# EAGLE library part TMUX6119 (library bc_custom)
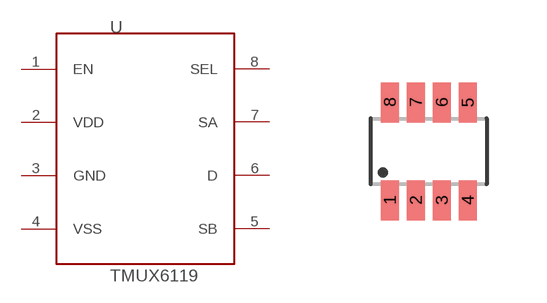
[diagram p8: symbol with the pads of SOT23-8L; footprint SOT23-8L]

Designator prefix -

## TMUX6119  [SOT23-8L]
1  EN
2  VDD  pwr
3  GND  pwr
4  VSS  pwr
5  SB
6  D
7  SA
8  SEL

## Footprint SOT23-8L (pad centres in mm)
SC70/SOT23-8 Source: http://datasheets.maxim-ic.com/en/ds/MAX4335-MAX4338.pdf
smd 0.45 x 1: 1 -0.975,-1.225; 2 -0.325,-1.225; 3 0.325,-1.225; 4 0.975,-1.225; 5 0.975,1.225; 6 0.325,1.225; 7 -0.325,1.225; 8 -0.975,1.225